# EAGLE library part LT8315 (library HyTechDevices)
LT8315 560VIN Micropower No-Opto Isolated Flyback Converter with 630V/300mA Switch Datasheet <https://www.analog.com/media/en/technical-documentation/data-sheets/8315fa.pdf>
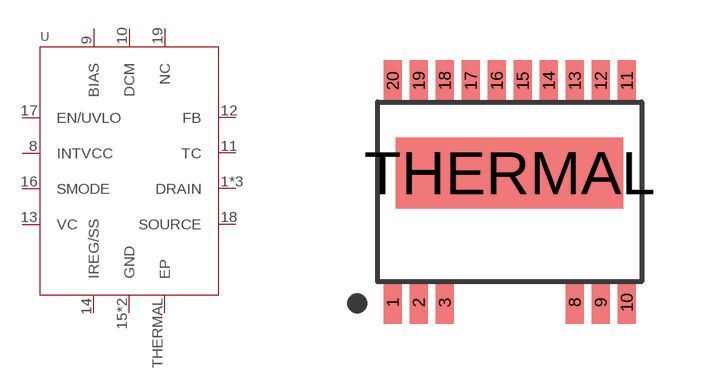
[diagram p66: symbol with the pads of TSSOP-20(16); footprint TSSOP-20(16)]

Designator prefix U

## LT8315 (DKPN: 505-LT8315HFE#PBF-ND; MANUFACTURER: Analog Devices Inc.; MOPN: 584-LT8315HFEPBF; MPN: LT8315HFE#PBF)  [TSSOP-20(16)]
1  DRAIN  oc
2  DRAIN  oc
3  DRAIN  oc
8  INTVCC  pas
9  BIAS  in
10  DCM  in
11  TC  pas
12  FB  in
13  VC  pas
14  IREG/SS  pas
15  GND  pwr
16  SMODE  in
17  EN/UVLO  in
18  SOURCE  out
19  NC  nc
20  GND  pwr
THERMAL  EP  pwr

## Footprint TSSOP-20(16) (pad centres in mm)
TSSOP-20 with 4 pins removed
smd 0.45 x 1.05: 1 -2.925,-2.775; 2 -2.275,-2.775; 3 -1.625,-2.775; 8 1.625,-2.775; 9 2.275,-2.775; 10 2.925,-2.775; 11 2.925,2.775; 12 2.275,2.775; 13 1.625,2.775; 14 0.975,2.775; 15 0.325,2.775; 16 -0.325,2.775; 17 -0.975,2.775; 18 -1.625,2.775; 19 -2.275,2.775; 20 -2.925,2.775
smd 5.68 x 1.78: THERMAL 0,0.47